# EAGLE library part 7SEGLEDCC (library xess)
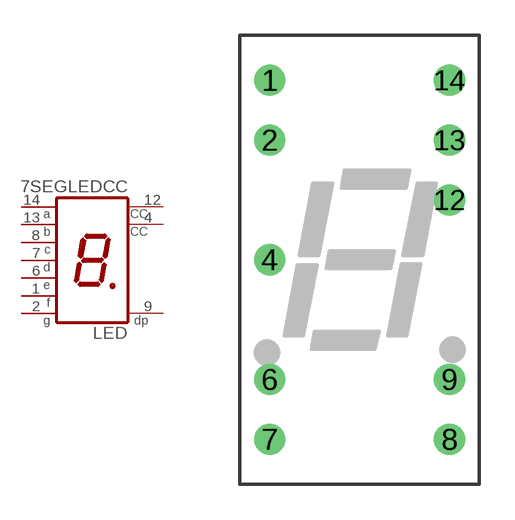
[diagram p6: symbol with the pads of 7SEGLEDCC; footprint 7SEGLEDCC]

Designator prefix LED

## 7SEGLEDCC  [7SEGLEDCC]
1  F  pas
2  G  pas
4  CC  pas
6  E  pas
7  D  pas
8  C  pas
9  DP  pas
12  CC  pas
13  B  pas
14  A  pas

## Footprint 7SEGLEDCC (pad centres in mm)
drill 0.813 round: 1 -5.08,7.62; 2 -5.08,5.08; 4 -5.08,0; 6 -5.08,-5.08; 7 -5.08,-7.62; 8 2.54,-7.62; 9 2.54,-5.08; 12 2.54,2.54; 13 2.54,5.08; 14 2.54,7.62